# Altium schematic symbol library MK66FX1M0VMD18.SchLib: 1 symbol
Pins are listed as number, name and electrical type; pins without a type are passive.

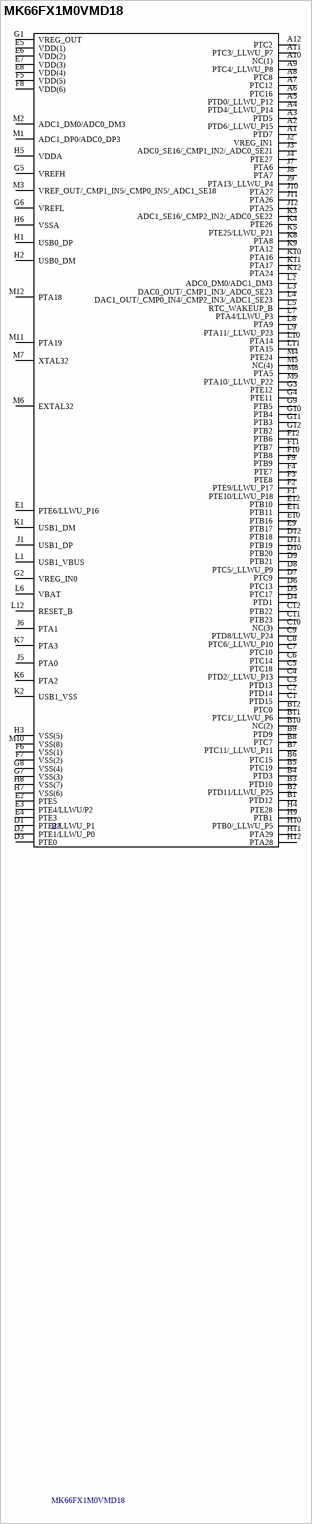
[diagram p0: symbol MK66FX1M0VMD18]

## MK66FX1M0VMD18
designator B?
ARM Microcontrollers - MCU BL Microcontrollers; Manufacturer_Name: Nexperia; Geometry.Height: 1.7mm; Supplier_Name: RS; RS Part Number: *; Manufacturer_Part_Number: MK66FX1M0VMD18; Allied_Number: *; Other Part Number: *; Datasheet Link: http://cache.freescale.com/files/shared/doc/package_info/98ASA00222D.pdf; 3D Package: *
footprint BGA144C100P12X12_1300X1300X170
pins: A1 PTD7, A2 PTD6/_LLWU_P15, A3 PTD5, A4 PTD4/_LLWU_P14, A5 PTD0/_LLWU_P12, A6 PTC16, A7 PTC12, A8 PTC8, A9 PTC4/_LLWU_P8, A10 NC(1), A11 PTC3/_LLWU_P7, A12 PTC2, B1 PTD12, B2 PTD11/LLWU_P25, B3 PTD10, B4 PTD3, B5 PTC19, B6 PTC15, B7 PTC11/_LLWU_P11, B8 PTC7, B9 PTD9, B10 NC(2), B11 PTC1/_LLWU_P6, B12 PTC0, C1 PTD15, C2 PTD14, C3 PTD13, C4 PTD2/_LLWU_P13, C5 PTC18, C6 PTC14, C7 PTC10, C8 PTC6/_LLWU_P10, C9 PTD8/LLWU_P24, C10 NC(3), C11 PTB23, C12 PTB22, D1 PTE2/LLWU_P1, D2 PTE1/LLWU_P0, D3 PTE0, D4 PTD1, D5 PTC17, D6 PTC13, D7 PTC9, D8 PTC5/_LLWU_P9, D9 PTB21, D10 PTB20, D11 PTB19, D12 PTB18, E1 PTE6/LLWU_P16, E2 PTE5, E3 PTE4/LLWU/P2, E4 PTE3, E5 VDD(1), E6 VDD(2), E7 VDD(3), E8 VDD(4), E9 PTB17, E10 PTB16, E11 PTB11, E12 PTB10, F1 PTE10/LLWU_P18, F2 PTE9/LLWU_P17, F3 PTE8, F4 PTE7, F5 VDD(5), F6 VSS(1), F7 VSS(2), F8 VDD(6), F9 PTB9, F10 PTB8, F11 PTB7, F12 PTB6, G1 VREG_OUT, G2 VREG_IN0, G3 PTE12, G4 PTE11, G5 VREFH, G6 VREFL, G7 VSS(3), G8 VSS(4), G9 PTB5, G10 PTB4, G11 PTB3, G12 PTB2, H1 USB0_DP, H2 USB0_DM, H3 VSS(5), H4 PTE28, H5 VDDA, H6 VSSA, H7 VSS(6), H8 VSS(7), H9 PTB1, H10 PTB0/_LLWU_P5, H11 PTA29, H12 PTA28, J1 USB1_DP, J2 VREG_IN1, J3 ADC0_SE16/_CMP1_IN2/_ADC0_SE21, J4 PTE27, J5 PTA0, J6 PTA1, J7 PTA6, J8 PTA7, J9 PTA13/_LLWU_P4, J10 PTA27, J11 PTA26, J12 PTA25, K1 USB1_DM, K2 USB1_VSS, K3 ADC1_SE16/_CMP2_IN2/_ADC0_SE22, K4 PTE26, K5 PTE25/LLWU_P21, K6 PTA2, K7 PTA3, K8 PTA8, K9 PTA12, K10 PTA16, K11 PTA17, K12 PTA24, L1 USB1_VBUS, L2 ADC0_DM0/ADC1_DM3, L3 DAC0_OUT/_CMP1_IN3/_ADC0_SE23, L4 DAC1_OUT/_CMP0_IN4/_CMP2_IN3/_ADC1_SE23, L5 RTC_WAKEUP_B, L6 VBAT, L7 PTA4/LLWU_P3, L8 PTA9, L9 PTA11/_LLWU_P23, L10 PTA14, L11 PTA15, L12 RESET_B, M1 ADC1_DP0/ADC0_DP3, M2 ADC1_DM0/ADC0_DM3, M3 VREF_OUT/_CMP1_IN5/_CMP0_IN5/_ADC1_SE18, M4 PTE24, M5 NC(4), M6 EXTAL32, M7 XTAL32, M8 PTA5, M9 PTA10/_LLWU_P22, M10 VSS(8), M11 PTA19, M12 PTA18